# Altium footprint library CAP_01uf-1nf.PcbLib: 1 footprints
Each footprint in its own frame and in the unit in brackets; x right, y up, seen from the top. Pads: shape width x height; smd on the part's side, far side on the other; paste and mask are expansions set on the pad; w line width, h text height; cw(c..) or ccw(c..) is an arc to the next point about the centre after c.
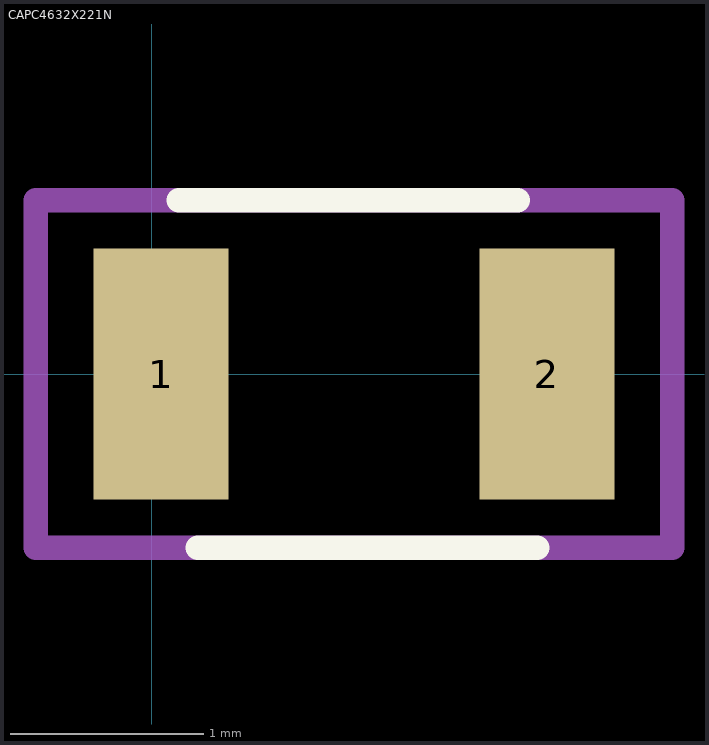
[diagram p0: the footprint, top view; thin cyan lines are the x and y axes]

## CAPC4632X221N [mm]
pads (2):
  rect 0.7x1.3 smd: 1(0.05,0) 2(2.05,0)
Top Overlay:
  lines w0.127: 0.14,0.9 1.9,0.9 ; 0.24,-0.9 2,-0.9
Mechanical 13:
  lines w0.127: -0.6,-0.9 2.7,-0.9 2.7,0.9 -0.6,0.9 -0.6,-0.9